# Altium footprint library PcbLib.PcbLib: 1 footprints
Each footprint in its own frame and in the unit in brackets; x right, y up, seen from the top. Pads: shape width x height; smd on the part's side, far side on the other; paste and mask are expansions set on the pad; w line width, h text height; cw(c..) or ccw(c..) is an arc to the next point about the centre after c.
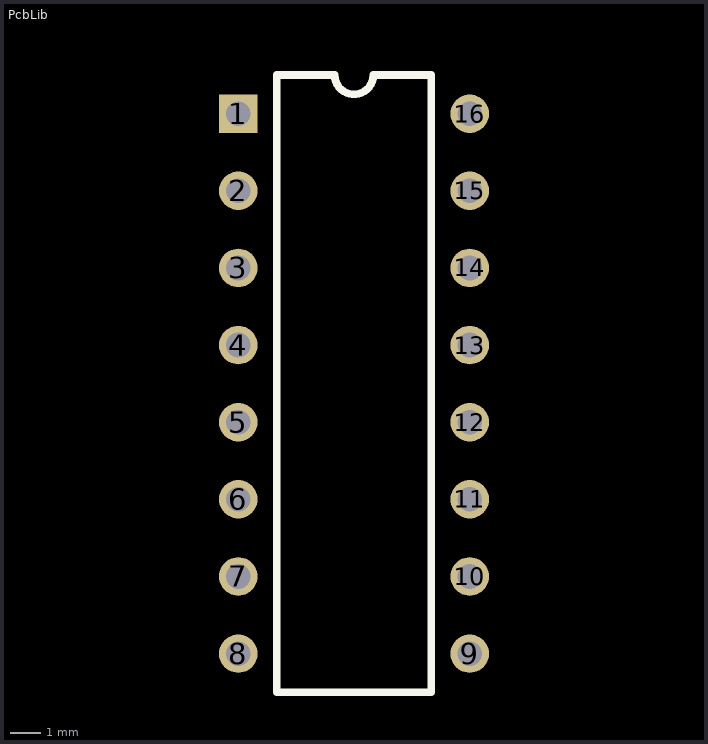
[diagram p0: the footprint, top view; thin cyan lines are the x and y axes]

## PcbLib [mil]
pads (16):
  rect 50x50 hole 32: 1(-30725,-27310)
  round 50 hole 32: 2(-30725,-27410) 3(-30725,-27510) 4(-30725,-27610) 5(-30725,-27710) 6(-30725,-27810) 7(-30725,-27910) 8(-30725,-28010) 9(-30425,-28010) 10(-30425,-27910) 11(-30425,-27810) 12(-30425,-27710) 13(-30425,-27610) 14(-30425,-27510) 15(-30425,-27410) 16(-30425,-27310)
Top Overlay:
  lines w10: -30675,-28060 -30475,-28060 -30475,-27260 -30550,-27260 cw(c-30575,-27260) -30600,-27260 -30675,-27260 -30675,-28060